# Altium footprint library PcbLib.PcbLib: 38 footprints (part 3 of 3)
Each footprint in its own frame and in the unit in brackets; x right, y up, seen from the top. Pads: shape width x height; smd on the part's side, far side on the other; paste and mask are expansions set on the pad; w line width, h text height; cw(c..) or ccw(c..) is an arc to the next point about the centre after c.
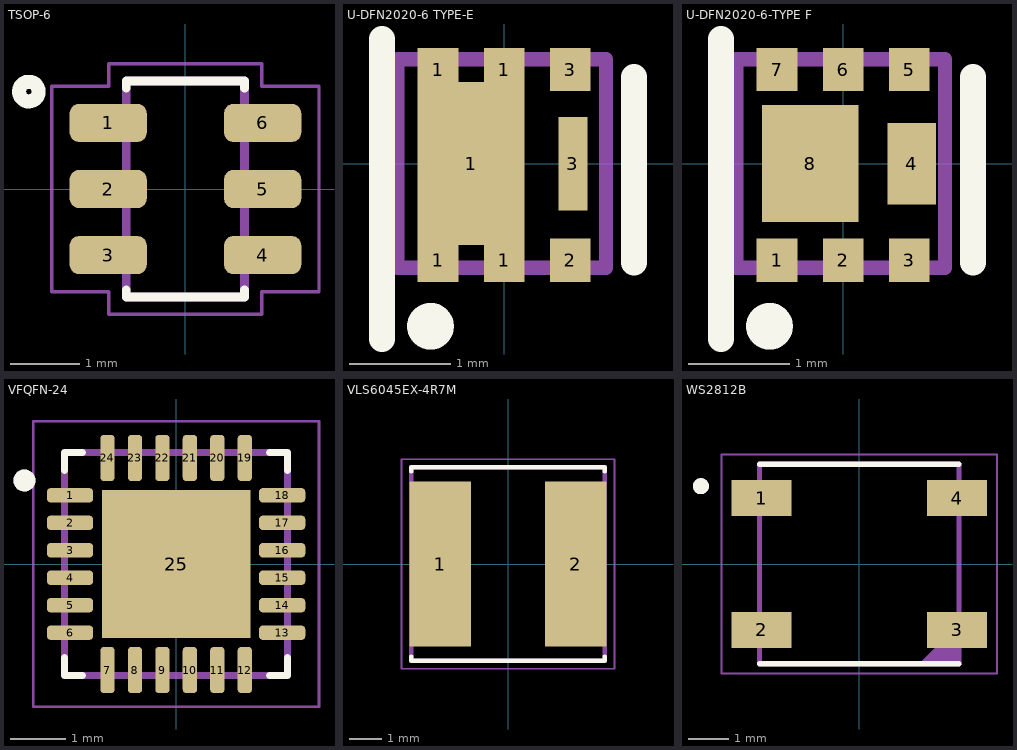
[diagram p2: the footprints below, top view; thin cyan lines are the x and y axes]

## TSOP-6 [mm]
pads (6):
  rrect50% 1.11x0.55 smd: 1(-1.11,0.95) 2(-1.11,0) 3(-1.11,-0.95) 4(1.11,-0.95) 5(1.11,0) 6(1.11,0.95)
Top Overlay:
  circle w0.2: c-2.25,1.4 r0.141
  lines w0.127: -0.85,-1.45 -0.85,-1.55 0.85,-1.55 0.85,-1.45 ; -0.85,1.45 -0.85,1.55 0.85,1.55 0.85,1.45
Mechanical 13:
  lines w0.127: -0.85,-1.55 -0.85,1.55 0.85,1.55 0.85,-1.55 -0.85,-1.55
Mechanical 15:
  lines w0.05: -1.92,-1.48 -1.92,1.48 -1.1,1.48 -1.1,1.8 1.1,1.8 1.1,1.48 1.92,1.48 1.92,-1.48 1.1,-1.48 1.1,-1.8 -1.1,-1.8 -1.1,-1.48 -1.92,-1.48
3D body "TSOP-6.STEP": height 1.1, standoff 0, extent -1.375,-1.5 1.375,1.5

## U-DFN2020-6 TYPE-E [mm]
pads (8):
  rect 0.4x0.425 smd: 1(-0.65,-0.95) 1(-0.65,0.925) 1(0,-0.95) 1(0,0.925) 2(0.65,-0.95) 3(0.65,0.925)
  rect 1.05x1.6 smd: 1(-0.325,0)
  rect 0.285x0.92 smd: 3(0.675,0)
Top Overlay:
  circle w0.254: c-0.725,-1.6 r0.103
  lines w0.254: -1.2,-1.725 -1.2,1.225 ; 1.275,-0.975 1.275,0.85
Mechanical 1:
  lines w0.14: -1.05,-1.025 -1.05,1.025 1,1.025 1,-1.025 -1.05,-1.025
3D body "UDFN-6.STEP": height 0.63, standoff 0, extent -1.025,-1.025 0.975,0.975

## U-DFN2020-6-TYPE F [mm]
pads (8):
  rect 0.4x0.425 smd: 1(-0.65,-0.95) 2(0,-0.95) 3(0.65,-0.95) 5(0.65,0.925) 6(0,0.925) 7(-0.65,0.925)
  rect 0.48x0.8 smd: 4(0.675,0)
  rect 0.95x1.15 smd: 8(-0.325,0)
Top Overlay:
  circle w0.254: c-0.725,-1.6 r0.103
  lines w0.254: -1.2,-1.725 -1.2,1.225 ; 1.275,-0.975 1.275,0.85
Mechanical 1:
  lines w0.14: -1.05,-1.025 1,-1.025 1,1.025 -1.05,1.025 -1.05,-1.025
3D body "UDFN-6.STEP": height 0.63, standoff 0, extent -1.025,-1.025 0.975,0.975

## VFQFN-24 [mm]
pads (25):
  rrect50% 0.84x0.26 smd: 1(-1.93,1.25) 2(-1.93,0.75) 3(-1.93,0.25) 4(-1.93,-0.25) 5(-1.93,-0.75) 6(-1.93,-1.25) 13(1.93,-1.25) 14(1.93,-0.75) 15(1.93,-0.25) 16(1.93,0.25) 17(1.93,0.75) 18(1.93,1.25)
  rrect50% 0.26x0.84 smd: 7(-1.25,-1.93) 8(-0.75,-1.93) 9(-0.25,-1.93) 10(0.25,-1.93) 11(0.75,-1.93) 12(1.25,-1.93) 19(1.25,1.93) 20(0.75,1.93) 21(0.25,1.93) 22(-0.25,1.93) 23(-0.75,1.93) 24(-1.25,1.93)
  rect 2.7x2.7 smd paste-2: 25(0,0)
Top Overlay:
  circle w0.2: c-2.76,1.52 r0.1
  lines w0.127: -2.03,-1.7 -2.03,-2.03 -1.7,-2.03 ; -2.03,1.7 -2.03,2.03 -1.7,2.03 ; 1.7,-2.03 2.03,-2.03 2.03,-1.7 ; 1.7,2.03 2.03,2.03 2.03,1.7
Top Paste:
  region: 1.09,0.13 0.13,0.13 0.13,1.09 1.09,1.09
  region: -0.13,0.13 -1.09,0.13 -1.09,1.09 -0.13,1.09
  region: -0.13,-1.09 -1.09,-1.09 -1.09,-0.13 -0.13,-0.13
  region: 1.09,-1.09 0.13,-1.09 0.13,-0.13 1.09,-0.13
Mechanical 13:
  circle w0.2: c-2.76,1.52 r0.1
  lines w0.127: -2.03,-2.03 2.03,-2.03 2.03,2.03 -2.03,2.03 -2.03,-2.03
Mechanical 15:
  lines w0.05: -2.6,-2.6 2.6,-2.6 2.6,2.6 -2.6,2.6 -2.6,-2.6
3D body "VFQFN-24.STEP": height 0.95, standoff -0.05, extent -2,-2 2,2

## VLS6045EX-4R7M [mm]
pads (2):
  rect 1.9x5.1 smd: 1(-2.1,0) 2(2.1,0)
Top Overlay:
  lines w0.127: -3,-2.87 -3,-3 3,-3 3,-2.87 ; -3,2.87 -3,3 3,3 3,2.87
Mechanical 13:
  lines w0.127: -3,-3 -3,3 3,3 3,-3 -3,-3
Mechanical 15:
  lines w0.05: -3.3,-3.25 -3.3,3.25 3.3,3.25 3.3,-3.25 -3.3,-3.25
3D body "VLS6045EX-4R7M.STEP": height 4.5, standoff 0, extent -3.025,-3.075 2.975,2.925

## WS2812B [mm]
pads (4):
  rect 1.5x0.9 smd: 1(-2.45,1.65) 2(-2.45,-1.65) 3(2.45,-1.65) 4(2.45,1.65)
Top Overlay:
  circle w0.2: c-3.97,1.95 r0.1
  lines w0.127: -2.5,-2.5 2.5,-2.5 ; -2.5,2.5 2.5,2.5
Mechanical 13:
  circle w0.2: c-3.97,1.95 r0.1
  region: 2.5,-2.5 1.5,-2.5 2.5,-1.5
  lines w0.127: -2.5,-2.5 2.5,-2.5 2.5,2.5 -2.5,2.5 -2.5,-2.5
Mechanical 15:
  lines w0.05: -3.45,-2.75 -3.45,2.75 3.45,2.75 3.45,-2.75 -3.45,-2.75
3D body "WS2812B.STEP": height 1.62, standoff 0, extent -2.675,-2.45 2.725,2.55